# Altium footprint library 姿态记录仪2.PcbLib: 30 footprints (part 2 of 2)
Each footprint in its own frame and in the unit in brackets; x right, y up, seen from the top. Pads: shape width x height; smd on the part's side, far side on the other; paste and mask are expansions set on the pad; w line width, h text height; cw(c..) or ccw(c..) is an arc to the next point about the centre after c.
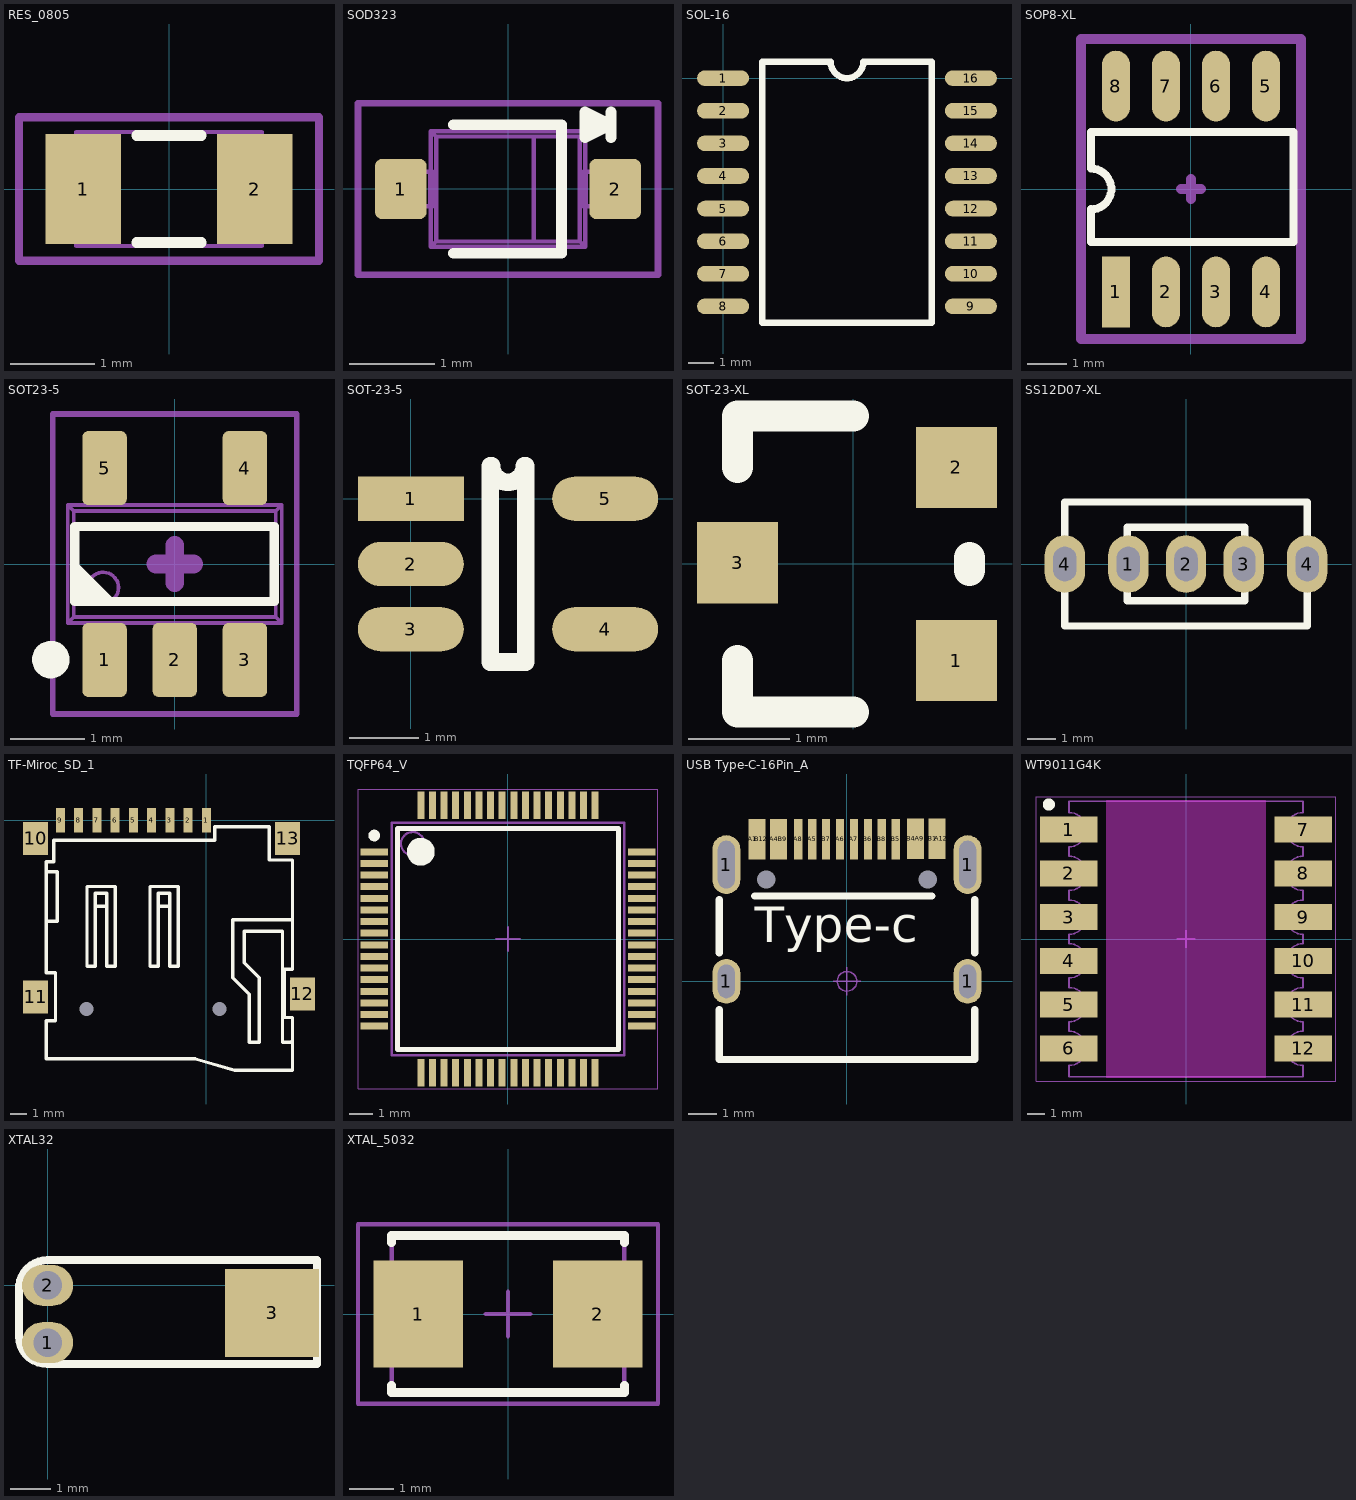
[diagram p1: the footprints below, top view; thin cyan lines are the x and y axes]

## RES_0805 [mm] "Chip Resistor, Body 2.0x1.2mm, 0805, IPC Medium Density"
height 0.7
pads (2):
  rect 0.9x1.3 smd: 1(-1.016,0) 2(1.016,0)
Top Overlay:
  lines w0.127: -0.381,-0.635 0.381,-0.635 ; -0.381,0.635 0.381,0.635
Mechanical 13:
  lines w0.05: 0.6,-0.674 -0.6,-0.674 ; -0.6,-0.674 0.6,-0.674 ; -0.6,-0.675 -1.1,-0.675 -1.1,0.675 -0.6,0.675 -0.6,-0.675 ; 0.6,-0.675 1.1,-0.675 1.1,0.675 0.6,0.675 ; 0.6,-0.675 0.6,0.675 ; 0.6,0.674 -0.6,0.674 0.6,0.674
Mechanical 14:
  lines w0.1: -1.778,-0.85 -1.778,0.85 1.778,0.85 1.778,-0.85 -1.778,-0.85
3D body "RES 0805 (2012 metric).STEP": height 0.69, standoff -0.01, extent -1.1,-0.675 1.1,0.675

## SOD323 [mm] "SOD-323; 2 Leads; Body 1.8 x 1.35 mm, (LxW)"
height 1.15
pads (2):
  rrect25% 0.6x0.7 smd: 1(-1.25,0) 2(1.25,0)
Top Overlay:
  lines w0.127: -0.635,-0.75 0.625,-0.75 0.625,0.75 -0.635,0.75 ; 0.9,0.75 1.2,0.75 ; 1.2,0.6 1.2,0.9 ; 1.2,0.75 0.9,0.9 0.9,0.6 1.2,0.75
Mechanical 13:
  lines w0.05: -1.157,-0.2 -1.157,0.2 ; -1.11,-0.2 -1.11,0.2 ; -0.91,-0.2 -0.91,0.2 ; -0.9,-0.2 -0.9,-0.675 ; -0.9,0.2 -0.9,0.675 ; 0.9,-0.2 0.9,-0.675 ; 0.9,0.2 0.9,0.675 ; 0.91,-0.2 0.91,0.2 ; 1.11,-0.2 1.11,0.2 ; 1.156,-0.2 1.156,0.2 ; -0.9,-0.675 0.9,-0.675 ; -0.9,-0.675 -0.838,-0.613 ; -0.9,0.675 0.9,0.675 ; -0.9,0.675 -0.838,0.613 ; -0.838,-0.613 0.3,-0.613 ; -0.838,-0.613 -0.838,0.613 ; -0.838,0.613 0.3,0.613 ; 0.3,-0.613 0.838,-0.613 ; 0.3,-0.613 0.3,0.613 ; 0.3,0.613 0.838,0.613 ; 0.838,-0.613 0.838,0.613 ; 0.838,-0.613 0.9,-0.675 ; 0.838,0.613 0.9,0.675 ; -1.3,-0.2 -1.3,0.2 -0.879,0.2 -0.879,-0.2 -1.3,-0.2 ; 0.879,-0.2 1.3,-0.2 1.3,0.2 0.879,0.2 0.879,-0.2
Mechanical 14:
  lines w0.076: -1.75,-1 -1.75,1 1.75,1 1.75,-1 -1.75,-1
3D body "SOD323.STEP": height 1.1, standoff 0, extent -1.3,-0.675 1.3,0.675

## SOL-16 [mil]
pads (16):
  oval 80x24 smd: 1(0,0) 2(0,-50) 3(0,-100) 4(0,-150) 5(0,-200) 6(0,-250) 7(0,-300) 8(0,-350) 9(380,-350) 10(380,-300) 11(380,-250) 12(380,-200) 13(380,-150) 14(380,-100) 15(380,-50) 16(380,0)
Top Overlay:
  lines w10: 60,-375 60,25 165,25 ccw(c190,25) 215,25 320,25 320,-375 60,-375

## SOP8-XL [mm]
pads (8):
  rect 0.711x1.8 smd: 1(-1.905,-2.613)
  oval 0.711x1.8 smd: 2(-0.635,-2.613) 3(0.635,-2.613) 4(1.905,-2.613) 5(1.905,2.613) 6(0.635,2.613) 7(-0.635,2.613) 8(-1.905,2.613)
Top Overlay:
  lines w0.203: -2.54,-0.517 ccw(c-2.54,0) -2.54,0.517 -2.54,1.451 2.6,1.451 2.6,-1.343 -2.54,-1.343 -2.54,-0.508
Mechanical 15:
  lines w0.254: -0.254,0 0.254,0 ; 0,-0.254 0,0.254 ; -2.794,-3.81 -2.794,3.81 2.8,3.81 2.8,-3.81 -2.794,-3.81
3D body "SOIC-8.STEP": height 1.75, standoff 0, extent -2.413,-3 2.487,3

## SOT23-5 [mm]
height 1.6
pads (5):
  rrect25% 0.6x1 smd: 1(-0.95,-1.3) 2(0,-1.3) 3(0.95,-1.3) 4(0.95,1.3) 5(-0.95,1.3)
Top Overlay:
  circle w0.254: c-1.68,-1.295 r0.127
  region: -1.353,-0.508 -1.353,0.053 -0.792,-0.508
  lines w0.127: -1.353,-0.508 1.347,-0.508 1.347,0.508 -1.353,0.508 -1.353,-0.508
Mechanical 13:
  circle w0.05: c-0.97,-0.32 r0.208
  lines w0.05: -1.15,-1.191 -0.75,-1.191 ; -1.15,-1.1 -0.75,-1.1 ; -1.15,-1.094 -0.75,-1.094 ; -1.15,-0.844 -0.75,-0.844 ; -1.15,-0.8 -1.15,-1.4 -0.75,-1.4 -0.75,-0.8 ; -1.15,0.8 -1.15,1.4 -0.75,1.4 -0.75,0.8 ; -1.15,0.844 -0.75,0.844 ; -1.15,1.094 -0.75,1.094 ; -1.15,1.1 -0.75,1.1 ; -1.15,1.191 -0.75,1.191 ; -0.2,-1.191 0.2,-1.191 ; -0.2,-1.1 0.2,-1.1 ; -0.2,-1.094 0.2,-1.094 ; -0.2,-0.844 0.2,-0.844 ; -0.2,-0.8 -0.2,-1.4 0.2,-1.4 0.2,-0.8 ; 0.75,-1.191 1.15,-1.191 ; 0.75,-1.1 1.15,-1.1 ; 0.75,-1.094 1.15,-1.094 ; 0.75,-0.844 1.15,-0.844 ; 0.75,-0.8 0.75,-1.4 1.15,-1.4 1.15,-0.8 ; 0.75,0.8 0.75,1.4 1.15,1.4 1.15,0.8 ; 0.75,0.844 1.15,0.844 ; 0.75,1.094 1.15,1.094 ; 0.75,1.1 1.15,1.1 ; 0.75,1.191 1.15,1.191 ; -1.45,-0.8 1.45,-0.8 ; -1.45,-0.8 -1.369,-0.719 ; -1.45,-0.8 -1.45,0.8 ; -1.45,0.8 1.45,0.8 ; -1.45,0.8 -1.369,0.719 ; -1.369,-0.719 -1.369,0.719 ; -1.369,-0.719 1.369,-0.719 ; -1.369,0.719 1.369,0.719 ; 1.369,-0.719 1.45,-0.8 ; 1.369,-0.719 1.369,0.719 ; 1.369,0.719 1.45,0.8 ; 1.45,-0.8 1.45,0.8
Mechanical 14:
  lines w0.076: -1.651,-2.032 -1.651,2.032 1.651,2.032 1.651,-2.032 -1.651,-2.032
Mechanical 15:
  lines w0.254: -0.254,0 0.254,0 ; 0,-0.254 0,0.254
3D body "SOT23-5.STEP": height 1.44, standoff -0.01, extent -1.45,-1.4 1.45,1.4

## SOT-23-5 [mil]
pads (5):
  rect 60x25 smd: 1(0,0)
  oval 60x25 smd: 2(0,-37) 3(0,-74) 4(110,-74) 5(110,0)
Top Overlay:
  lines w10: 45,18.5 45,-92.5 65,-92.5 65,18.5 ; 45.75,18.5 ccw(c55,18.5) 64.25,18.5
3D body "SOT-23-5.STEP": height 47.24, standoff 0, extent -2.11,-93.09 108.12,21.08

## SOT-23-XL [mm]
pads (3):
  rect 0.8x0.8 smd: 1(1.016,-0.953) 2(1.016,0.952) 3(-1.143,0.013)
Top Overlay:
  lines w0.305: -1.143,-0.953 -1.143,-1.461 0,-1.461 ; -1.143,0.952 -1.143,1.46 0,1.46 ; 1.143,-0.064 1.143,0.063
3D body "CircuitWorks-SOT-23.step": height 1.12, standoff 0.02, extent -1.25,-1.5 1.25,1.5

## SS12D07-XL [mm]
pads (5):
  oval 1.4x2 hole 0.8 slot 1.2 at 90 deg: 1(-2,0) 2(0,0) 3(2,0) 4(-4.2,0) 4(4.2,0)
Top Overlay:
  lines w0.254: -4.2,-2.15 -4.2,0 -4.2,2.15 4.2,2.15 4.2,0 4.2,-2.15 -4.2,-2.15 ; -2.032,-1.27 -2.032,0 -2.032,1.27 2.032,1.27 2.032,-1.27 -2.032,-1.27
3D body: height 0, standoff -2, extent 3.828,-0.508 4.59,0.508
3D body: height 0, standoff -2, extent 1.66,-0.508 2.422,0.508
3D body: height 0, standoff -2, extent -0.372,-0.508 0.39,0.508
3D body: height 0, standoff -2, extent -2.404,-0.508 -1.642,0.508
3D body: height 0, standoff -2, extent -4.572,-0.508 -3.81,0.508
3D body: height 4.72, standoff 4.7, extent -2.032,-1.27 2.032,1.27
3D body: height 4.7, standoff 0, extent -4.2,-2.15 4.2,2.15
3D body: height 7.1, standoff 4.7, extent -2.032,-1.27 -0.508,1.27

## TF-Miroc_SD_1 [mm] "XL"
pads (15):
  rect 0.55x1.5 smd: 1(0,0) 2(-1.101,0) 3(-2.203,0) 4(-3.304,0) 5(-4.405,0) 6(-5.506,0) 7(-6.608,0) 8(-7.709,0) 9(-8.81,0)
  rect 1.5x2 smd: 10(-10.305,-1.1) 11(-10.305,-10.66) 12(5.795,-10.48) 13(4.895,-1.1)
  rect 0x0 hole 0.85: 14(-7.23,-11.4) 15(0.78,-11.4)
Top Overlay:
  lines w0.203: -9.655,-6.1 -9.005,-6.1 -9.005,-3.1 -9.655,-3.1 ; -6.705,-5.2 -6.005,-5.2 ; -2.905,-5.2 -2.205,-5.2 ; 5.195,-13.3 5.095,-13.4 4.595,-13.4 4.595,-6.7 2.295,-6.7 2.295,-8.6 3.195,-9.5 3.195,-13.4 2.595,-13.4 2.595,-10.6 2.595,-10.5 1.595,-9.5 1.595,-6.9 1.595,-6 5.195,-6 ; -9.205,-2.5 -9.655,-2.5 -9.655,-9.2 -9.105,-9.2 -9.105,-12.1 -9.655,-12.1 -9.655,-14.4 -0.655,-14.4 1.695,-15.08 5.195,-15.08 5.195,-11.9 4.695,-11.9 4.695,-9 5.195,-9 5.195,-2.4 3.795,-2.4 3.795,-0.4 0.495,-0.4 0.495,-1.2 -9.205,-1.2 -9.205,-2.3 -9.205,-2.5 ; -9.205,-2.5 -9.205,-2.5 ; -7.205,-8.8 -7.205,-4 -5.505,-4 -5.505,-8.8 -6.005,-8.8 -6.005,-4.4 -6.705,-4.4 -6.705,-8.8 -7.205,-8.8 ; -3.405,-8.8 -2.905,-8.8 -2.905,-4.4 -2.205,-4.4 -2.205,-8.8 -1.705,-8.8 -1.705,-4 -3.405,-4 -3.405,-8.8
3D body "User Library-Micro SD.STEP": height 2, standoff -0.47, extent -10.439,-14.859 5.867,0.351
3D body "SD-Card.STEP": height 1.84, standoff 0.86, extent -8.142,-18.136 2.858,-3.136

## TQFP64_V [mm] "Thin QFP, 64-Leads, Body 10x10mm, Pitch 0.5mm, ST Recommended"
height 1.6
pads (64):
  rect 1.2x0.3 smd: 1(-5.75,3.75) 2(-5.75,3.25) 3(-5.75,2.75) 4(-5.75,2.25) 5(-5.75,1.75) 6(-5.75,1.25) 7(-5.75,0.75) 8(-5.75,0.25) 9(-5.75,-0.25) 10(-5.75,-0.75) 11(-5.75,-1.25) 12(-5.75,-1.75) 13(-5.75,-2.25) 14(-5.75,-2.75) 15(-5.75,-3.25) 16(-5.75,-3.75) 33(5.75,-3.75) 34(5.75,-3.25) 35(5.75,-2.75) 36(5.75,-2.25) 37(5.75,-1.75) 38(5.75,-1.25) 39(5.75,-0.75) 40(5.75,-0.25) 41(5.75,0.25) 42(5.75,0.75) 43(5.75,1.25) 44(5.75,1.75) 45(5.75,2.25) 46(5.75,2.75) 47(5.75,3.25) 48(5.75,3.75)
  rect 0.3x1.2 smd: 17(-3.75,-5.75) 18(-3.25,-5.75) 19(-2.75,-5.75) 20(-2.25,-5.75) 21(-1.75,-5.75) 22(-1.25,-5.75) 23(-0.75,-5.75) 24(-0.25,-5.75) 25(0.25,-5.75) 26(0.75,-5.75) 27(1.25,-5.75) 28(1.75,-5.75) 29(2.25,-5.75) 30(2.75,-5.75) 31(3.25,-5.75) 32(3.75,-5.75) 49(3.75,5.75) 50(3.25,5.75) 51(2.75,5.75) 52(2.25,5.75) 53(1.75,5.75) 54(1.25,5.75) 55(0.75,5.75) 56(0.25,5.75) 57(-0.25,5.75) 58(-0.75,5.75) 59(-1.25,5.75) 60(-1.75,5.75) 61(-2.25,5.75) 62(-2.75,5.75) 63(-3.25,5.75) 64(-3.75,5.75)
Top Overlay:
  circle w0.25: c-5.75,4.45 r0.125
  circle w0.6: c-3.75,3.75 r0.3
  lines w0.2: -4.75,-4.75 -4.75,4.75 4.75,4.75 4.75,-4.75 -4.75,-4.75
Mechanical 13:
  circle w0.1: c-4.1,4.1 r0.5
  lines w0.1: -5,-5 -5,5 5,5 5,-5 -5,-5
Mechanical 15:
  lines w0.05: -6.45,-6.45 -6.45,6.45 6.45,6.45 6.45,-6.45 -6.45,-6.45
  lines w0.1: -0.5,0 0.5,0 ; 0,-0.5 0,0.5
3D body "STM32F105R8T6_TSOP64.STEP": height 1.63, standoff 0.02, extent -5.997,-6.021 6.003,5.979

## USB Type-C-16Pin_A [mm]
height 1.6
pads (22):
  round 0 hole 0.65: 0(-2.89,3.65) 0(2.89,3.65)
  oval 1x1.6 hole 0.6 slot 1.2 at 90 deg: 1(-4.32,0) 1(4.32,0)
  oval 1x2.1 hole 0.6 slot 1.7 at 90 deg: 1(-4.32,4.18) 1(4.32,4.18)
  rect 0.3x1.45 smd: A1(-3.375,5.092) A4(-2.6,5.092) A5(-1.25,5.092) A6(-0.25,5.092) A7(0.25,5.092) A8(-1.75,5.092) A9(2.6,5.1) A12(3.375,5.1) B1(3.075,5.1) B4(2.3,5.1) B5(1.75,5.092) B6(0.75,5.092) B7(-0.75,5.092) B8(1.25,5.092) B9(-2.3,5.092) B12(-3.075,5.092)
Top Overlay:
  lines w0.254: -4.572,-1.016 -4.572,-2.794 4.572,-2.794 4.572,-1.016 ; -4.572,1.016 -4.572,2.921 ; -3.302,3.048 3.048,3.048 ; 4.572,1.016 4.572,2.921
  text "Type-c" at -3.302,1.397 h1.27
Mechanical 15:
  circle w0.05: c0,0 r0.35
  lines w0.05: -0.5,0 0.5,0 ; 0,-0.5 0,0.5
3D body "USB Type-C_A.STEP": height 3.25, standoff -0.85, extent -4.47,-2.6 4.47,5.3

## WT9011G4K [mm]
pads (12):
  rect 3.35x1.5 smd: 1(-6.8,6.35) 2(-6.8,3.81) 3(-6.8,1.27) 4(-6.8,-1.27) 5(-6.8,-3.81) 6(-6.8,-6.35) 7(6.8,6.35) 8(6.8,3.81) 9(6.8,1.27) 10(6.8,-1.27) 11(6.8,-3.81) 12(6.8,-6.35)
Top Overlay:
  circle w0.6: c-7.962,7.813 r0.05
Keep-Out Layer:
  board cut-out: -4.572,-8 4.572,-8 4.572,8.001 -4.572,8.001
Keep-Out Layer:
  lines w0.152: -4.572,-8 4.572,-8 4.572,8.001 -4.572,8.001 -4.572,-8
Mechanical 13:
  lines w0.1: -6.8,-8 6.8,-8 6.8,-7.35 cw(c6.8,-6.35) 6.8,-5.35 6.8,-4.81 cw(c6.8,-3.81) 6.8,-2.81 6.8,-2.27 cw(c6.8,-1.27) 6.8,-0.27 6.8,0.27 cw(c6.8,1.27) 6.8,2.27 6.8,2.81 cw(c6.8,3.81) 6.8,4.81 6.8,5.35 cw(c6.8,6.35) 6.8,7.35 6.8,8 -6.8,8 -6.8,7.35 cw(c-6.8,6.35) -6.8,5.35 -6.8,4.81 cw(c-6.8,3.81) -6.8,2.81 -6.8,2.27 cw(c-6.8,1.27) -6.8,0.27 -6.8,-0.27 cw(c-6.8,-1.27) -6.8,-2.27 -6.8,-2.81 cw(c-6.8,-3.81) -6.8,-4.81 -6.8,-5.35 cw(c-6.8,-6.35) -6.8,-7.35 -6.8,-8
Mechanical 15:
  lines w0.05: -8.71,-8.25 8.71,-8.25 8.71,8.25 -8.71,8.25 -8.71,-8.25
  lines w0.1: -0.5,0 0.5,0 ; 0,-0.5 0,0.5
3D body: height 2, standoff 0, extent -8,-8 8,8

## XTAL32 [mil] "3*6MM"
pads (3):
  oval 50x40 hole 28: 1(0,-56) 2(0,0)
  rect 92.13x86 smd: 3(220,-27)
Top Overlay:
  lines w8: -28,-50 ccw(c-0.5,-49.5) 0,-77 264,-77 264,25 0,25 ccw(c0.5,-3.5) -28,-4 -28,-50
3D body "User Library-DT-26-1.STEP": height 89.37, standoff -68.11, extent -7.55,-68.74 273.55,10

## XTAL_5032 [mm] "Molded Capacitor, 2-Leads, Body 5.0x3.2mm, IPC Medium Density"
height 1.5
pads (2):
  rect 2x2.4 smd: 1(-2,0) 2(2,0)
Top Overlay:
  lines w0.2: -2.6,-1.6 -2.6,-1.75 2.6,-1.75 2.6,-1.6 ; -2.6,1.6 -2.6,1.75 2.6,1.75 2.6,1.6
Mechanical 13:
  lines w0.1: -2.6,-1.7 -2.6,1.7 2.6,1.7 2.6,-1.7 -2.6,-1.7
Mechanical 15:
  lines w0.1: -0.5,0 0.5,0 ; 0,-0.5 0,0.5 ; -3.35,-2 -3.35,2 3.35,2 3.35,-2 -3.35,-2
3D body "User Library-CRYSTALSMD5X32.STEP": height 1, standoff 0, extent -2.5,-1.6 2.5,1.6